# Altium schematic symbol library DG126.SchLib: 7 symbols
Pins are listed as number, name and electrical type; pins without a type are passive.

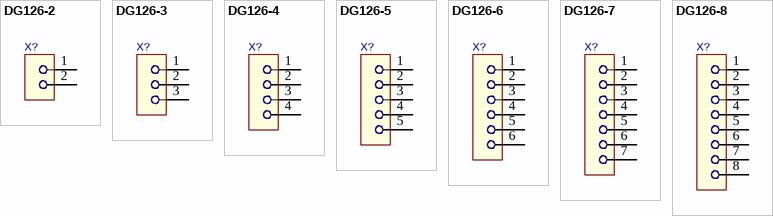
[diagram p0: symbols DG126-2 to DG126-8]

## DG126-2
designator X?  (value not drawn)
PCB terminal block; Value: *
footprint DG126-2 (PCB terminal block)
pins: 1, 2

## DG126-3
designator X?  (value not drawn)
PCB terminal block; Value: *
footprint DG126-3 (PCB terminal block)
pins: 1, 2, 3

## DG126-4
designator X?  (value not drawn)
PCB terminal block; Value: *
footprint DG126-4 (PCB terminal block)
pins: 1, 2, 3, 4

## DG126-5
designator X?  (value not drawn)
PCB terminal block; Value: *
footprint DG126-5 (PCB terminal block)
pins: 1, 2, 3, 4, 5

## DG126-6
designator X?  (value not drawn)
PCB terminal block; Value: *
footprint DG126-6 (PCB terminal block)
pins: 1, 2, 3, 4, 5, 6

## DG126-7
designator X?  (value not drawn)
PCB terminal block; Value: *
footprint DG126-7 (PCB terminal block)
pins: 1, 2, 3, 4, 5, 6, 7

## DG126-8
designator X?  (value not drawn)
PCB terminal block; Value: *
footprint DG126-8 (PCB terminal block)
pins: 1, 2, 3, 4, 5, 6, 7, 8